# Altium integrated library SN74AXC8T245.IntLib: 1 symbol
Pins are listed as number, name and electrical type; pins without a type are passive.

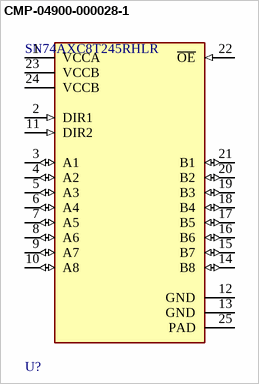
[diagram p0: symbol CMP-04900-000028-1]

## CMP-04900-000028-1
designator U?, comment SN74AXC8T245RHLR
IC TRNSLTR BIDIRECTIONAL 24VQFN; Number of Circuits: 1; Data Rate: 380Mbps; Number of Bits: 8; Packaging: Tape and Reel; Case/Package: VQFN; Mount: Surface Mount; Channel Type: Bidirectional; Min Operating Temperature: -40°C; Max Operating Temperature: 125°C; RoHS Compliant: Yes
footprint FP-RHL0024A-MFG
pins: 1 VCCA (power), 2 DIR1 (in), 3 A1 (io), 4 A2 (io), 5 A3 (io), 6 A4 (io), 7 A5 (io), 8 A6 (io), 9 A7 (io), 10 A8 (io), 11 DIR2 (in), 12 GND (power), 13 GND (power), 14 B8 (io), 15 B7 (io), 16 B6 (io), 17 B5 (io), 18 B4 (io), 19 B3 (io), 20 B2 (io), 21 B1 (io), 22 ~{OE} (in), 23 VCCB (power), 24 VCCB (power), 25 PAD (power)